# Altium footprint library Linear - Amplifiers - Instrumentation, OP Amps, Buffer Amps.PcbLib: 6 footprints
Each footprint in its own frame and in the unit in brackets; x right, y up, seen from the top. Pads: shape width x height; smd on the part's side, far side on the other; paste and mask are expansions set on the pad; w line width, h text height; cw(c..) or ccw(c..) is an arc to the next point about the centre after c.
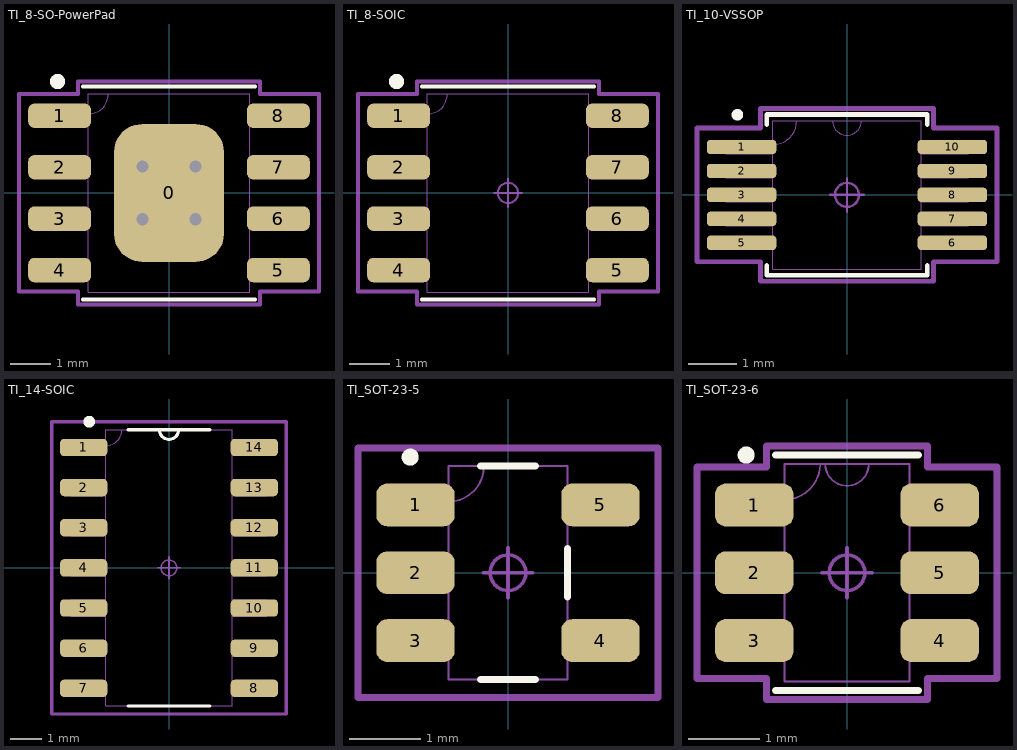
[diagram p0: the footprints below, top view; thin cyan lines are the x and y axes]

## TI_8-SO-PowerPad [mm]
pads (9):
  rrect50% 2.71x3.4 smd mask+0.04: 0(0,0)
  rrect50% 1.55x0.6 smd paste+0 mask+0.04: 1(-2.7,1.905) 2(-2.7,0.635) 3(-2.7,-0.635) 4(-2.7,-1.905) 5(2.7,-1.905) 6(2.7,-0.635) 7(2.7,0.635) 8(2.7,1.905)
via 0.65,0.65 diameter 0.5 hole 0.3
via 0.65,-0.65 diameter 0.5 hole 0.3
via -0.65,-0.65 diameter 0.5 hole 0.3
via -0.65,0.65 diameter 0.5 hole 0.3
Top Overlay:
  circle w0.2: c-2.75,2.75 r0.087
  lines w0.1: -2.121,-2.629 2.121,-2.629 ; -2.121,2.629 2.121,2.629
Mechanical 13:
  lines w0.025: -1.994,1.95 ccw(c-1.994,2.45) -1.494,2.45 ; -3.099,-2.159 -1.994,-2.159 -1.994,-1.651 -3.099,-1.651 -3.099,-2.159 ; -3.099,-0.889 -1.994,-0.889 -1.994,-0.381 -3.099,-0.381 -3.099,-0.889 ; -3.099,0.381 -1.994,0.381 -1.994,0.889 -3.099,0.889 -3.099,0.381 ; -3.099,1.651 -1.994,1.651 -1.994,2.159 -3.099,2.159 -3.099,1.651 ; -1.994,-2.45 -1.994,2.45 1.994,2.45 1.994,-2.45 -1.994,-2.45 ; 1.994,-2.159 3.099,-2.159 3.099,-1.651 1.994,-1.651 1.994,-2.159 ; 1.994,-0.889 3.099,-0.889 3.099,-0.381 1.994,-0.381 1.994,-0.889 ; 1.994,0.381 3.099,0.381 3.099,0.889 1.994,0.889 1.994,0.381 ; 1.994,1.651 3.099,1.651 3.099,2.159 1.994,2.159 1.994,1.651
Mechanical 15:
  circle w0.05: c0,0 r0.25
  lines w0.05: -0.35,0 0.35,0 ; 0,-0.35 0,0.35
  lines w0.1: -3.703,-2.438 -2.248,-2.438 -2.248,-2.756 2.248,-2.756 2.248,-2.438 3.703,-2.438 3.703,2.438 2.248,2.438 2.248,2.756 -2.248,2.756 -2.248,2.438 -3.703,2.438 -3.703,-2.438
3D body "DDA0008B.stp": height 1.57, standoff 0, extent -3.014,-2.45 3.014,2.45

## TI_8-SOIC [mm]
pads (8):
  rrect50% 1.55x0.6 smd paste+0 mask+0.04: 1(-2.7,1.905) 2(-2.7,0.635) 3(-2.7,-0.635) 4(-2.7,-1.905) 5(2.7,-1.905) 6(2.7,-0.635) 7(2.7,0.635) 8(2.7,1.905)
Top Overlay:
  circle w0.2: c-2.75,2.75 r0.087
  lines w0.1: -2.121,-2.629 2.121,-2.629 ; -2.121,2.629 2.121,2.629
Mechanical 13:
  lines w0.025: -1.994,1.95 ccw(c-1.994,2.45) -1.494,2.45 ; -3.099,-2.159 -1.994,-2.159 -1.994,-1.651 -3.099,-1.651 -3.099,-2.159 ; -3.099,-0.889 -1.994,-0.889 -1.994,-0.381 -3.099,-0.381 -3.099,-0.889 ; -3.099,0.381 -1.994,0.381 -1.994,0.889 -3.099,0.889 -3.099,0.381 ; -3.099,1.651 -1.994,1.651 -1.994,2.159 -3.099,2.159 -3.099,1.651 ; -1.994,-2.45 -1.994,2.45 1.994,2.45 1.994,-2.45 -1.994,-2.45 ; 1.994,-2.159 3.099,-2.159 3.099,-1.651 1.994,-1.651 1.994,-2.159 ; 1.994,-0.889 3.099,-0.889 3.099,-0.381 1.994,-0.381 1.994,-0.889 ; 1.994,0.381 3.099,0.381 3.099,0.889 1.994,0.889 1.994,0.381 ; 1.994,1.651 3.099,1.651 3.099,2.159 1.994,2.159 1.994,1.651
Mechanical 15:
  circle w0.05: c0,0 r0.25
  lines w0.05: -0.35,0 0.35,0 ; 0,-0.35 0,0.35
  lines w0.1: -3.703,-2.438 -2.248,-2.438 -2.248,-2.756 2.248,-2.756 2.248,-2.438 3.703,-2.438 3.703,2.438 2.248,2.438 2.248,2.756 -2.248,2.756 -2.248,2.438 -3.703,2.438 -3.703,-2.438
3D body "D0008A.stp": height 1.63, standoff 0, extent -3.011,-2.451 3.012,2.451

## TI_10-VSSOP [mm]
pads (10):
  rrect50% 1.45x0.3 smd paste+0 mask+0.04: 1(-2.2,1) 2(-2.2,0.5) 3(-2.2,0) 4(-2.2,-0.5) 5(-2.2,-1) 6(2.2,-1) 7(2.2,-0.5) 8(2.2,0) 9(2.2,0.5) 10(2.2,1)
Top Overlay:
  circle w0.12: c-2.288,1.673 r0.06
  lines w0.1: -1.676,-1.472 -1.676,-1.676 1.676,-1.676 1.676,-1.472 ; -1.676,1.472 -1.676,1.676 1.676,1.676 1.676,1.472
Mechanical 13:
  lines w0.025: -1.549,1.049 ccw(c-1.549,1.549) -1.049,1.549 ; -0.305,1.549 ccw(c0,1.549) 0.305,1.549 ; -2.527,-1.14 -1.549,-1.14 -1.549,-0.86 -2.527,-0.86 -2.527,-1.14 ; -2.527,-0.64 -1.549,-0.64 -1.549,-0.36 -2.527,-0.36 -2.527,-0.64 ; -2.527,-0.14 -1.549,-0.14 -1.549,0.14 -2.527,0.14 -2.527,-0.14 ; -2.527,0.36 -1.549,0.36 -1.549,0.64 -2.527,0.64 -2.527,0.36 ; -2.527,0.86 -1.549,0.86 -1.549,1.14 -2.527,1.14 -2.527,0.86 ; -1.549,-1.549 -1.549,1.549 1.549,1.549 1.549,-1.549 -1.549,-1.549 ; 1.549,-1.14 2.527,-1.14 2.527,-0.86 1.549,-0.86 1.549,-1.14 ; 1.549,-0.64 2.527,-0.64 2.527,-0.36 1.549,-0.36 1.549,-0.64 ; 1.549,-0.14 2.527,-0.14 2.527,0.14 1.549,0.14 1.549,-0.14 ; 1.549,0.36 2.527,0.36 2.527,0.64 1.549,0.64 1.549,0.36 ; 1.549,0.86 2.527,0.86 2.527,1.14 1.549,1.14 1.549,0.86
Mechanical 15:
  circle w0.05: c0,0 r0.25
  lines w0.05: -0.35,0 0.35,0 ; 0,-0.35 0,0.35
  lines w0.1: -3.131,-1.394 -1.803,-1.394 -1.803,-1.803 1.803,-1.803 1.803,-1.394 3.131,-1.394 3.131,1.394 1.803,1.394 1.803,1.803 -1.803,1.803 -1.803,1.394 -3.131,1.394 -3.131,-1.394
3D body "DGS0010A.stp": height 1.09, standoff -0.01, extent -2.463,-1.5 2.463,1.5

## TI_14-SOIC [mm]
pads (14):
  rrect50% 1.5x0.55 smd mask+0.04: 1(-2.7,3.81) 2(-2.7,2.54) 3(-2.7,1.27) 4(-2.7,0) 5(-2.7,-1.27) 6(-2.7,-2.54) 7(-2.7,-3.81) 8(2.7,-3.81) 9(2.7,-2.54) 10(2.7,-1.27) 11(2.7,0) 12(2.7,1.27) 13(2.7,2.54) 14(2.7,3.81)
Top Overlay:
  circle w0.2: c-2.525,4.625 r0.087
  lines w0.1: -1.293,-4.369 1.293,-4.369 ; -1.293,4.369 1.293,4.369 ; -0.305,4.369 ccw(c0,4.369) 0.305,4.369
Mechanical 13:
  lines w0: -0.305,4.369 ccw(c0,4.369) 0.305,4.369
  lines w0.025: -1.994,3.868 ccw(c-1.994,4.368) -1.494,4.368 ; -3.099,-4.064 -1.994,-4.064 -1.994,-3.556 -3.099,-3.556 -3.099,-4.064 ; -3.099,-2.794 -1.994,-2.794 -1.994,-2.286 -3.099,-2.286 -3.099,-2.794 ; -3.099,-1.524 -1.994,-1.524 -1.994,-1.016 -3.099,-1.016 -3.099,-1.524 ; -3.099,-0.254 -1.994,-0.254 -1.994,0.254 -3.099,0.254 -3.099,-0.254 ; -3.099,1.016 -1.994,1.016 -1.994,1.524 -3.099,1.524 -3.099,1.016 ; -3.099,2.286 -1.994,2.286 -1.994,2.794 -3.099,2.794 -3.099,2.286 ; -3.099,3.556 -1.994,3.556 -1.994,4.064 -3.099,4.064 -3.099,3.556 ; -1.994,-4.369 -1.994,4.369 1.994,4.369 1.994,-4.369 -1.994,-4.369 ; 1.994,-4.064 3.099,-4.064 3.099,-3.556 1.994,-3.556 1.994,-4.064 ; 1.994,-2.794 3.099,-2.794 3.099,-2.286 1.994,-2.286 1.994,-2.794 ; 1.994,-1.524 3.099,-1.524 3.099,-1.016 1.994,-1.016 1.994,-1.524 ; 1.994,-0.254 3.099,-0.254 3.099,0.254 1.994,0.254 1.994,-0.254 ; 1.994,1.016 3.099,1.016 3.099,1.524 1.994,1.524 1.994,1.016 ; 1.994,2.286 3.099,2.286 3.099,2.794 1.994,2.794 1.994,2.286 ; 1.994,3.556 3.099,3.556 3.099,4.064 1.994,4.064 1.994,3.556
Mechanical 15:
  circle w0.05: c0,0 r0.25
  lines w0.05: -0.35,0 0.35,0 ; 0,-0.35 0,0.35
  lines w0.1: -3.708,-4.623 3.708,-4.623 3.708,4.623 -3.708,4.623 -3.708,-4.623
3D body "D0014A.stp": height 1.75, standoff 0, extent -3.013,-4.325 3.013,4.325

## TI_SOT-23-5 [mm] "SOT-23 - 1.45 mm max height"
pads (5):
  rrect50% 1.1x0.6 smd mask+0.04: 1(-1.3,0.953) 2(-1.3,0) 3(-1.3,-0.953) 4(1.3,-0.953) 5(1.3,0.953)
Top Overlay:
  circle w0.12: c-1.375,1.625 r0.06
  lines w0.1: -0.385,-1.499 0.385,-1.499 ; -0.385,1.499 0.385,1.499 ; 0.838,-0.34 0.838,0.34
Mechanical 13:
  lines w0.025: -0.838,0.999 ccw(c-0.838,1.499) -0.338,1.499 ; -1.499,-1.206 -0.838,-1.206 -0.838,-0.699 -1.499,-0.699 -1.499,-1.206 ; -1.499,-0.254 -0.838,-0.254 -0.838,0.254 -1.499,0.254 -1.499,-0.254 ; -1.499,0.699 -0.838,0.699 -0.838,1.206 -1.499,1.206 -1.499,0.699 ; -0.838,-1.499 -0.838,1.499 0.838,1.499 0.838,-1.499 -0.838,-1.499 ; 0.838,-1.206 1.499,-1.206 1.499,-0.699 0.838,-0.699 0.838,-1.206 ; 0.838,0.699 1.499,0.699 1.499,1.206 0.838,1.206 0.838,0.699
Mechanical 15:
  circle w0.05: c0,0 r0.25
  lines w0.05: -0.35,0 0.35,0 ; 0,-0.35 0,0.35
  lines w0.1: -2.108,-1.753 2.108,-1.753 2.108,1.753 -2.108,1.753 -2.108,-1.753
3D body "DBV0005A.stp": height 1.2, standoff 0, extent -1.4,-1.45 1.4,1.45

## TI_SOT-23-6 [mm]
pads (6):
  rrect50% 1.1x0.6 smd paste+0 mask+0.04: 1(-1.3,0.95) 2(-1.3,0) 3(-1.3,-0.95) 4(1.3,-0.95) 5(1.3,0) 6(1.3,0.95)
Top Overlay:
  circle w0.12: c-1.413,1.65 r0.06
  lines w0.1: -1.003,-1.651 1.003,-1.651 ; -1.003,1.651 1.003,1.651
Mechanical 13:
  lines w0.025: -0.876,1.024 ccw(c-0.876,1.524) -0.376,1.524 ; -0.305,1.524 ccw(c0,1.524) 0.305,1.524 ; -1.499,-1.204 -1.499,-0.696 -0.876,-0.696 -0.876,-1.204 -1.499,-1.204 ; -1.499,-0.254 -1.499,0.254 -0.876,0.254 -0.876,-0.254 -1.499,-0.254 ; -1.499,0.696 -1.499,1.204 -0.876,1.204 -0.876,0.696 -1.499,0.696 ; -0.876,-1.524 0.876,-1.524 0.876,1.524 -0.876,1.524 -0.876,-1.524 ; 0.876,-1.204 0.876,-0.696 1.499,-0.696 1.499,-1.204 0.876,-1.204 ; 0.876,-0.254 0.876,0.254 1.499,0.254 1.499,-0.254 0.876,-0.254 ; 0.876,0.696 0.876,1.204 1.499,1.204 1.499,0.696 0.876,0.696
Mechanical 15:
  circle w0.05: c0,0 r0.25
  lines w0.05: -0.35,0 0.35,0 ; 0,-0.35 0,0.35
  lines w0.1: -2.103,-1.483 -2.103,1.483 -1.13,1.483 -1.13,1.778 1.13,1.778 1.13,1.483 2.103,1.483 2.103,-1.483 1.13,-1.483 1.13,-1.778 -1.13,-1.778 -1.13,-1.483 -2.103,-1.483
3D body "DBV0006A.stp": height 1.2, standoff 0, extent -1.4,-1.45 1.4,1.45